# EAGLE library part AG1170 (library ruark2)
Aliexpress SLIC
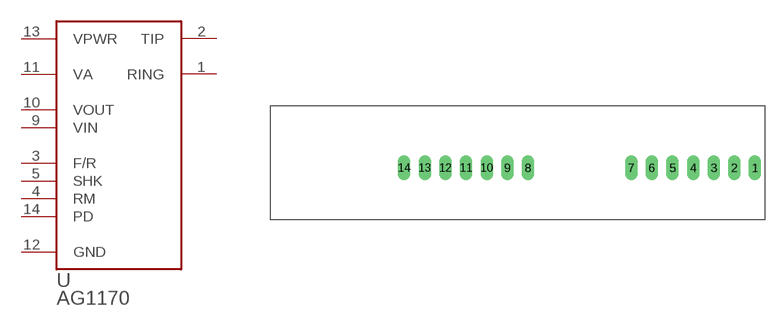
[diagram p204: symbol with the pads of AG1170S; footprint AG1170S]

Designator prefix U

## AG1170  [AG1170S]
1  RING
2  TIP
3  F/R
4  RM
5  SHK
9  VIN
10  VOUT
11  VA
12  GND
13  VPWR
14  PD

## Footprint AG1170S (pad centres in mm)
drill 1.016 long: 1 -1.27,0; 2 -3.81,0; 3 -6.35,0; 4 -8.89,0; 5 -11.43,0; 6 -13.97,0; 7 -16.51,0; 8 -29.21,0; 9 -31.75,0; 10 -34.29,0; 11 -36.83,0; 12 -39.37,0; 13 -41.91,0; 14 -44.45,0